# EAGLE library part BC56-12 (library Soldering)
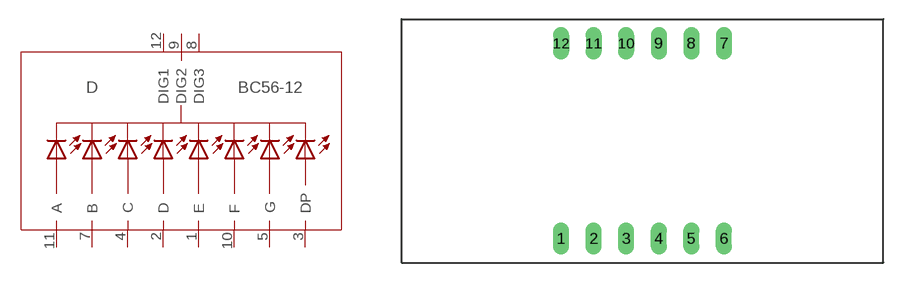
[diagram p0: symbol with the pads of BC56; footprint BC56]

Designator prefix D

## BC56-12EWA  [BC56]
1  E  pas
2  D  pas
3  DP  pas
4  C  pas
5  G  pas
7  B  pas
8  DIG3  pas
9  DIG2  pas
10  F  pas
11  A  pas
12  DIG1  pas

## BC56-12GWA  [BC56]
Pads as for BC56

## Footprint BC56 (pad centres in mm)
drill 0.75 long: 1 -6.35,-7.62; 2 -3.81,-7.62; 3 -1.27,-7.62; 4 1.27,-7.62; 5 3.81,-7.62; 6 6.35,-7.62; 7 6.35,7.62; 8 3.81,7.62; 9 1.27,7.62; 10 -1.27,7.62; 11 -3.81,7.62; 12 -6.35,7.62